# Altium footprint library Module-Power.PcbLib: 4 footprints
Each footprint in its own frame and in the unit in brackets; x right, y up, seen from the top. Pads: shape width x height; smd on the part's side, far side on the other; paste and mask are expansions set on the pad; w line width, h text height; cw(c..) or ccw(c..) is an arc to the next point about the centre after c.
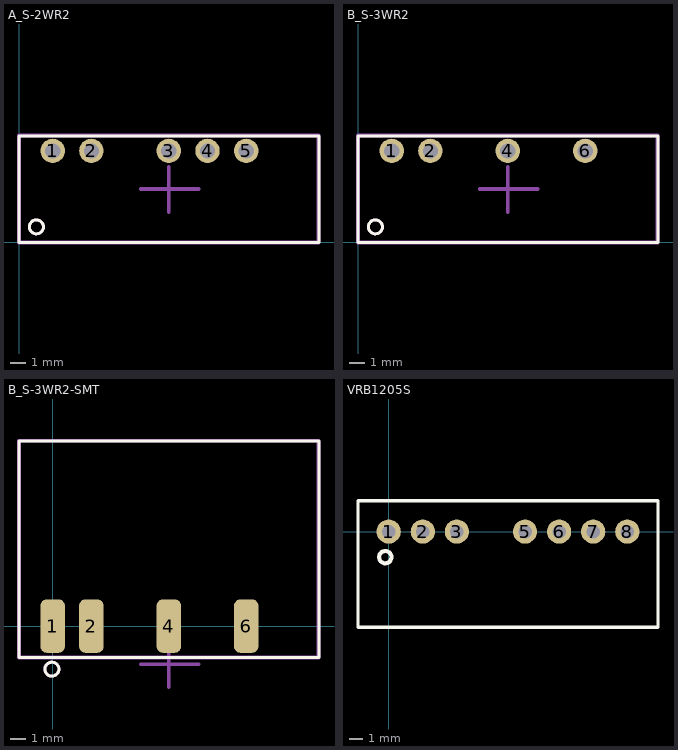
[diagram p0: the footprints below, top view; thin cyan lines are the x and y axes]

## A_S-2WR2 [mm] "A_S-2WR2"
pads (5):
  round 1.6 hole 1: 1(2.21,6) 2(4.75,6) 3(9.83,6) 4(12.37,6) 5(14.91,6)
Top Overlay:
  circle w0.2: c1.143,1.016 r0.458
  lines w0.2: 0,0 19.685,0 19.685,6.985 0,6.985 0,0
Top Component Outline:
  lines w0.254: 0,0 19.65,0 19.65,7 0,7 0,0
Top Component Center:
  lines w0.254: 7.998,3.498 11.788,3.498 ; 9.83,1.991 9.83,4.941
Top Value:
  text "'.Comment'" at 3.308,2.535 h3
Top Designator:
  text ".Designator" at 2.395,2.872 h3
Top Assembly (Mech20):
  circle w0.2: c1.143,1.016 r0.458
  lines w0.2: 0,0 19.685,0 19.685,6.985 0,6.985 0,0
3D body "A_S-2WR2.stp": height 10.16, standoff -4.1, extent -0.015,-0.125 19.635,6.925

## B_S-3WR2 [mm]
pads (4):
  round 1.6 hole 1: 1(2.21,6) 2(4.75,6) 4(9.83,6) 6(14.91,6)
Top Overlay:
  circle w0.2: c1.143,1.016 r0.458
  lines w0.2: 0,0 19.685,0 19.685,6.985 0,6.985 0,0
Top Component Outline:
  lines w0.254: 0,0 0,7 19.65,7 19.65,0 0,0
Top Component Center:
  lines w0.254: 7.998,3.498 11.788,3.498 ; 9.83,1.991 9.83,4.941
Top Value:
  text "'.Comment'" at 3.308,2.662 h3
Top Designator:
  text ".Designator" at 2.395,2.999 h3
Top Assembly (Mech20):
  circle w0.2: c1.143,1.016 r0.458
  lines w0.2: 0,0 0,6.985 19.685,6.985 19.685,0 0,0
3D body "B0505S-3WR2.step": height 10.16, standoff -4.1, extent 0.005,-0.15 19.655,6.901

## B_S-3WR2-SMT [mm]
pads (4):
  rrect50% 1.6x3.5 smd: 1(0,0) 2(2.54,0) 4(7.62,0) 6(12.7,0)
Top Overlay:
  circle w0.2: c-0.051,-2.825 r0.458
  lines w0.2: -2.21,-2.063 -2.21,12.161 17.475,12.161 17.475,-2.063 -2.21,-2.063
Top Component Outline:
  lines w0.254: -2.21,-2.063 17.44,-2.063 17.44,12.161 -2.21,12.161 -2.21,-2.063
Top Component Center:
  lines w0.254: 5.788,-2.502 9.578,-2.502 ; 7.62,-4.009 7.62,-1.059
Top Value:
  text "'.Comment'" at 1.098,-3.338 h3
Top Designator:
  text ".Designator" at 0.185,-3.001 h3
Top Assembly (Mech20):
  circle w0.2: c-0.051,-2.825 r0.458
  lines w0.2: -2.21,-2.063 17.475,-2.063 17.475,12.161 -2.21,12.161 -2.21,-2.063
3D body "B0505S-3WR2.step": height 7.15, standoff 0.1, extent -2.256,-2.099 17.394,12.161

## VRB1205S [mm] "DCDC模块"
height 12
pads (7):
  round 1.8 hole 1: 1(0,0) 2(2.54,0) 3(5.08,0) 5(10.16,0) 6(12.7,0) 7(15.24,0) 8(17.78,0)
Top Overlay:
  circle w0.3: c-0.254,-1.905 r0.458
  lines w0.254: -2.286,-7.112 20.066,-7.112 20.066,2.286 -2.286,2.286 -2.286,-7.112
Top Designator:
  text ".Designator" at 1.272,-2.921 h1.52
Bottom Courtyard:
  lines w0.152: -2.286,-7.112 -2.286,2.286 20.066,2.286 20.066,-7.112 -2.286,-7.112
  text ".Designator" at 16.508,-2.921 h1.52
  text "'.Designator'" at 2.921,-3.683 h2.03
3D body "VRB_S-6WR3.stp": height 12.1, standoff -4, extent -2.11,-7.112 19.89,2.388